# Altium footprint library Chip ceramic capacitors.PcbLib: 29 footprints (part 2 of 2)
Each footprint in its own frame and in the unit in brackets; x right, y up, seen from the top. Pads: shape width x height; smd on the part's side, far side on the other; paste and mask are expansions set on the pad; w line width, h text height; cw(c..) or ccw(c..) is an arc to the next point about the centre after c.
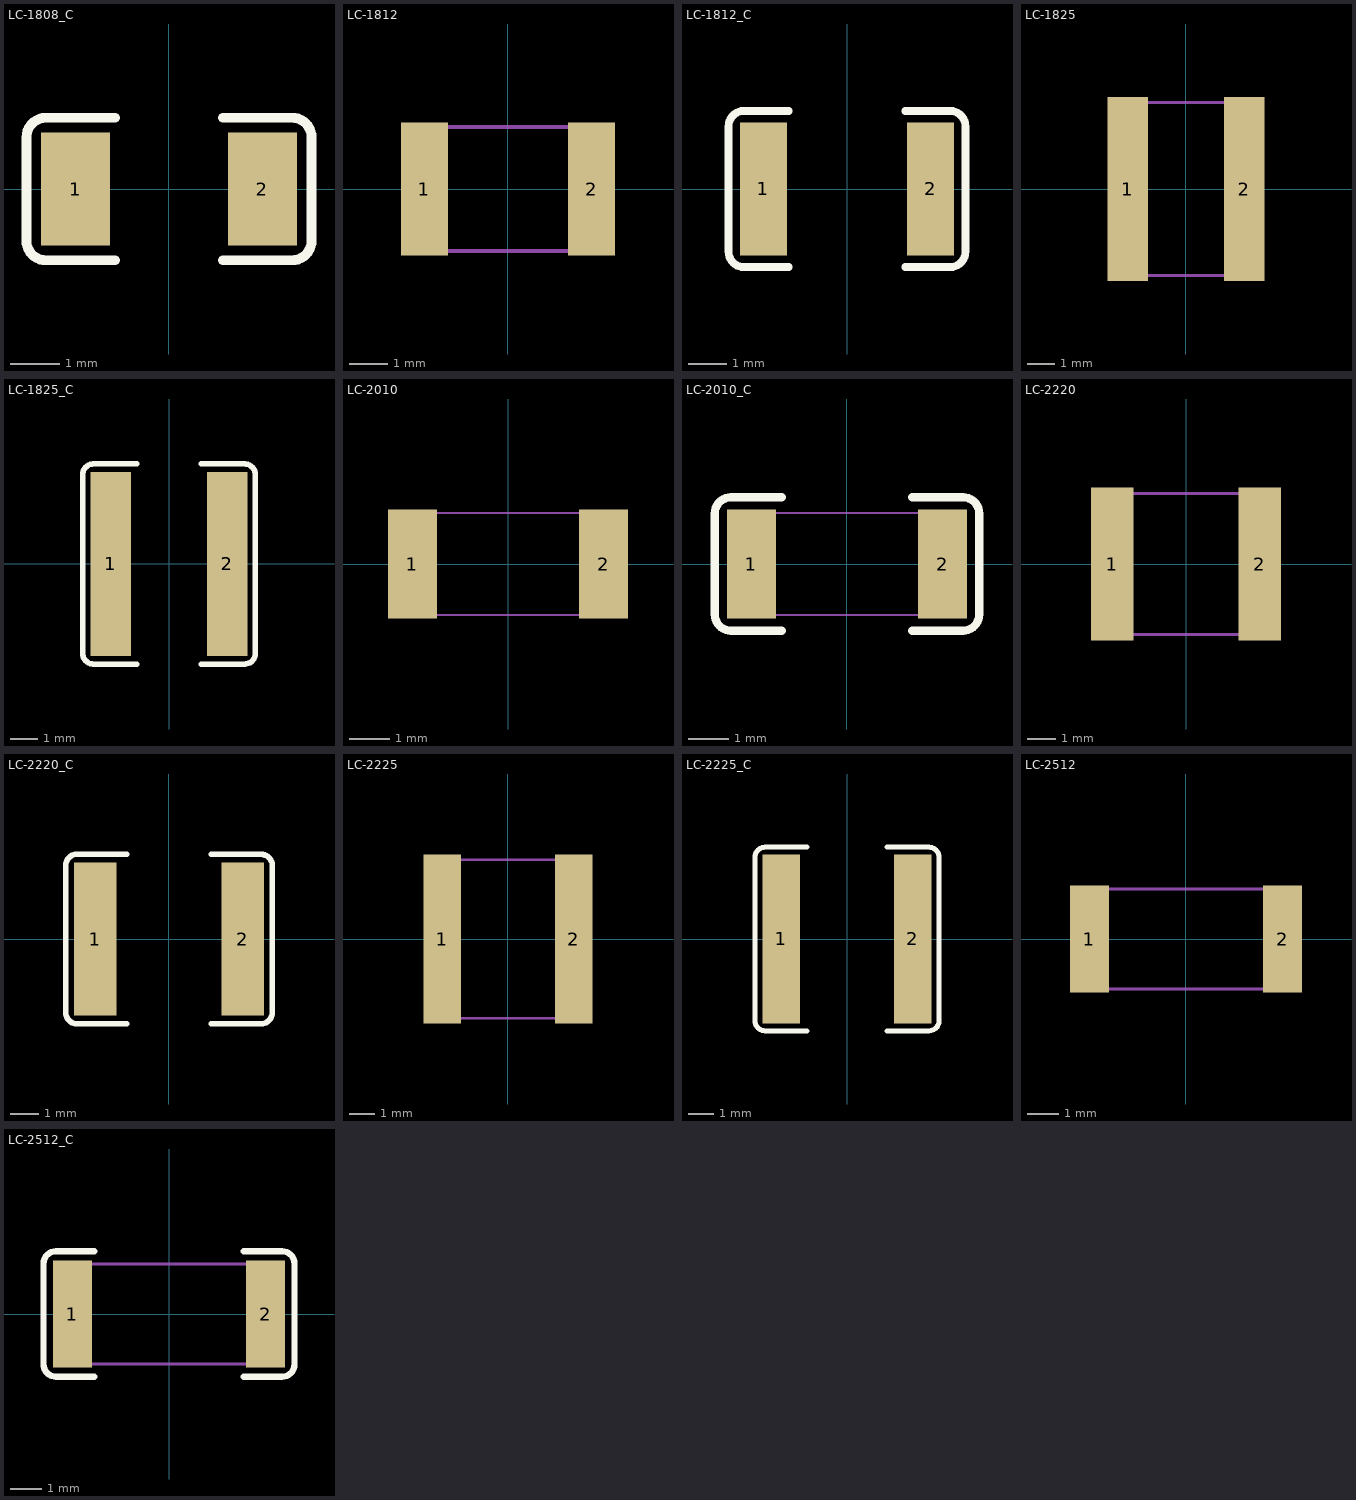
[diagram p1: the footprints below, top view; thin cyan lines are the x and y axes]

## LC-1808_C [mm]
pads (2):
  rect 1.4x2.3 smd: 1(-1.9,0) 2(1.9,0)
Top Overlay:
  lines w0.2: -1.1,-1.45 -2.5,-1.45 cw(c-2.5,-1.05) -2.9,-1.05 -2.9,1.05 cw(c-2.5,1.05) -2.5,1.45 -1.1,1.45 ; 1.1,-1.45 2.5,-1.45 ccw(c2.5,-1.05) 2.9,-1.05 2.9,1.05 ccw(c2.5,1.05) 2.5,1.45 1.1,1.45
3D body "C1808.STEP": height 0.88, standoff -0.02, extent -2.25,-1 2.25,1

## LC-1812 [mm]
pads (2):
  rect 1.2x3.42 smd: 1(-2.15,0) 2(2.15,0)
Mechanical 13:
  lines w0.1: -2.25,-1.6 2.25,-1.6 2.25,1.6 -2.25,1.6 -2.25,-1.6
3D body "CAPC_1812x050I_4532x13M.STEP": height 1.3, standoff 0, extent -2.25,-1.6 2.25,1.6

## LC-1812_C [mm]
pads (2):
  rect 1.2x3.42 smd: 1(-2.15,0) 2(2.15,0)
Top Overlay:
  lines w0.2: -1.5,-2.01 -2.65,-2.01 cw(c-2.65,-1.61) -3.05,-1.61 -3.05,1.61 cw(c-2.65,1.61) -2.65,2.01 -1.5,2.01 ; 1.5,-2.01 2.65,-2.01 ccw(c2.65,-1.61) 3.05,-1.61 3.05,1.61 ccw(c2.65,1.61) 2.65,2.01 1.5,2.01
3D body "CAPC_1812x050I_4532x13M.STEP": height 1.3, standoff 0, extent -2.25,-1.6 2.25,1.6

## LC-1825 [mm]
pads (2):
  rect 1.5x6.81 smd: 1(-2.15,0) 2(2.15,0)
Mechanical 13:
  lines w0.1: -2.3,-3.2 2.3,-3.2 2.3,3.2 -2.3,3.2 -2.3,-3.2
3D body "CAPC_1825x060I_4564x15M.STEP": height 1.5, standoff 0, extent -2.25,-3.2 2.25,3.2

## LC-1825_C [mm]
pads (2):
  rect 1.5x6.81 smd: 1(-2.15,0) 2(2.15,0)
Top Overlay:
  lines w0.203: -1.2,-3.705 -2.8,-3.705 cw(c-2.8,-3.305) -3.2,-3.305 -3.2,3.305 cw(c-2.8,3.305) -2.8,3.705 -1.2,3.705 ; 1.2,-3.705 2.8,-3.705 ccw(c2.8,-3.305) 3.2,-3.305 3.2,3.305 ccw(c2.8,3.305) 2.8,3.705 1.2,3.705
3D body "CAPC_1825x060I_4564x15M.STEP": height 1.5, standoff 0, extent -2.25,-3.2 2.25,3.2

## LC-2010 [mm]
pads (2):
  rect 1.2x2.67 smd: 1(-2.34,0) 2(2.34,0)
Mechanical 13:
  lines w0.05: -2.5,-1.25 2.5,-1.25 2.5,1.25 -2.5,1.25 -2.5,-1.25

## LC-2010_C [mm]
pads (2):
  rect 1.2x2.67 smd: 1(-2.34,0) 2(2.34,0)
Top Overlay:
  lines w0.2: -1.6,-1.635 -2.84,-1.635 cw(c-2.84,-1.235) -3.24,-1.235 -3.24,1.235 cw(c-2.84,1.235) -2.84,1.635 -1.6,1.635 ; 1.6,-1.635 2.84,-1.635 ccw(c2.84,-1.235) 3.24,-1.235 3.24,1.235 ccw(c2.84,1.235) 2.84,1.635 1.6,1.635
Mechanical 13:
  lines w0.05: -2.5,-1.25 2.5,-1.25 2.5,1.25 -2.5,1.25 -2.5,-1.25

## LC-2220 [mm]
pads (2):
  rect 1.5x5.42 smd: 1(-2.62,0) 2(2.62,0)
Mechanical 13:
  lines w0.1: -2.9,-2.5 2.9,-2.5 2.9,2.5 -2.9,2.5 -2.9,-2.5
3D body "CAPC_2220x102I_5750x26M.STEP": height 2.6, standoff 0, extent -2.85,-2.5 2.85,2.5

## LC-2220_C [mm]
pads (2):
  rect 1.5x5.42 smd: 1(-2.62,0) 2(2.62,0)
Top Overlay:
  lines w0.2: -1.5,-3.01 -3.27,-3.01 cw(c-3.27,-2.61) -3.67,-2.61 -3.67,2.61 cw(c-3.27,2.61) -3.27,3.01 -1.5,3.01 ; 1.5,-3.01 3.27,-3.01 ccw(c3.27,-2.61) 3.67,-2.61 3.67,2.61 ccw(c3.27,2.61) 3.27,3.01 1.5,3.01
3D body "CAPC_2220x102I_5750x26M.STEP": height 2.6, standoff 0, extent -2.85,-2.5 2.85,2.5

## LC-2225 [mm]
pads (2):
  rect 1.5x6.72 smd: 1(-2.62,0) 2(2.62,0)
Mechanical 13:
  lines w0.1: -2.85,-3.15 -2.85,3.15 2.85,3.15 2.85,-3.15 -2.85,-3.15
3D body "CAPC_2225x070I_5764x18M.STEP": height 1.8, standoff 0, extent -2.85,-3.175 2.85,3.175

## LC-2225_C [mm]
pads (2):
  rect 1.5x6.72 smd: 1(-2.62,0) 2(2.62,0)
Top Overlay:
  lines w0.2: -1.6,-3.66 -3.27,-3.66 cw(c-3.27,-3.26) -3.67,-3.26 -3.67,3.26 cw(c-3.27,3.26) -3.27,3.66 -1.6,3.66 ; 1.6,-3.66 3.27,-3.66 ccw(c3.27,-3.26) 3.67,-3.26 3.67,3.26 ccw(c3.27,3.26) 3.27,3.66 1.6,3.66
3D body "User Library-CAPC5764X13.STEP": height 1.3, standoff 0, extent -2.85,-3.175 2.85,3.175

## LC-2512 [mm]
pads (2):
  rect 1.25x3.42 smd: 1(-3.1,0) 2(3.1,0)
Mechanical 13:
  lines w0.1: -3.15,-1.6 -3.15,1.6 3.15,1.6 3.15,-1.6 -3.15,-1.6

## LC-2512_C [mm]
pads (2):
  rect 1.25x3.42 smd: 1(-3.1,0) 2(3.1,0)
Top Overlay:
  lines w0.203: -2.4,-2.01 -3.625,-2.01 cw(c-3.625,-1.61) -4.025,-1.61 -4.025,1.61 cw(c-3.625,1.61) -3.625,2.01 -2.4,2.01 ; 2.4,-2.01 3.625,-2.01 ccw(c3.625,-1.61) 4.025,-1.61 4.025,1.61 ccw(c3.625,1.61) 3.625,2.01 2.4,2.01
Mechanical 13:
  lines w0.1: -3.15,-1.6 -3.15,1.6 3.15,1.6 3.15,-1.6 -3.15,-1.6